# EAGLE library part MEMO5-V2 (library mo5)
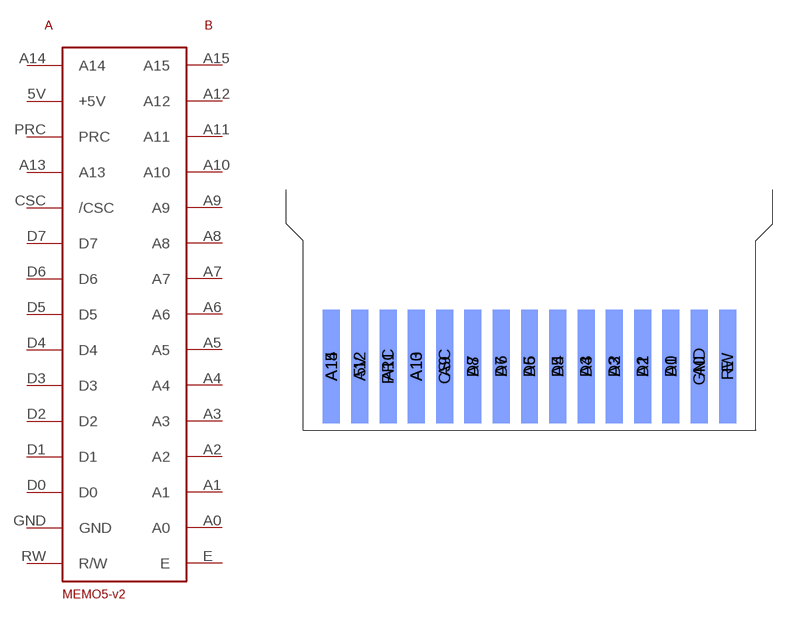
[diagram p0: symbol with the pads of MEMO5-BOARD; footprint MEMO5-BOARD]

Designator prefix -

## MEMO5-V2BRD  [MEMO5-BOARD]
5V  +5V  pwr
A0  A0  out
A1  A1  out
A2  A2  out
A3  A3  out
A4  A4  out
A5  A5  out
A6  A6  out
A7  A7  out
A8  A8  out
A9  A9  out
A10  A10  out
A11  A11  out
A12  A12  out
A13  A13  out
A14  A14  out
A15  A15  out
CSC  /CSC  in
D0  D0
D1  D1
D2  D2
D3  D3
D4  D4
D5  D5
D6  D6
D7  D7
E  E  out
GND  GND  pwr
PRC  PRC
RW  R/W  out

## Footprint MEMO5-BOARD (pad centres in mm)
smd 1.524 x 10.16: 5V -12.7,5.715; A13 -7.62,5.715; A14 -15.24,5.715; CSC -5.08,5.715; D0 15.24,5.715; D1 12.7,5.715; D2 10.16,5.715; D3 7.62,5.715; D4 5.08,5.715; D5 2.54,5.715; D6 0,5.715; D7 -2.54,5.715; GND 17.78,5.715; PRC -10.16,5.715; RW 20.32,5.715
smd 1.524 x 10.16 bottom: A0 17.78,5.715; A1 15.24,5.715; A2 12.7,5.715; A3 10.16,5.715; A4 7.62,5.715; A5 5.08,5.715; A6 2.54,5.715; A7 0,5.715; A8 -2.54,5.715; A9 -5.08,5.715; A10 -7.62,5.715; A11 -10.16,5.715; A12 -12.7,5.715; A15 -15.24,5.715; E 20.32,5.715